# Altium footprint library KVM Footprints.PcbLib: 10 footprints
Each footprint in its own frame and in the unit in brackets; x right, y up, seen from the top. Pads: shape width x height; smd on the part's side, far side on the other; paste and mask are expansions set on the pad; w line width, h text height; cw(c..) or ccw(c..) is an arc to the next point about the centre after c.
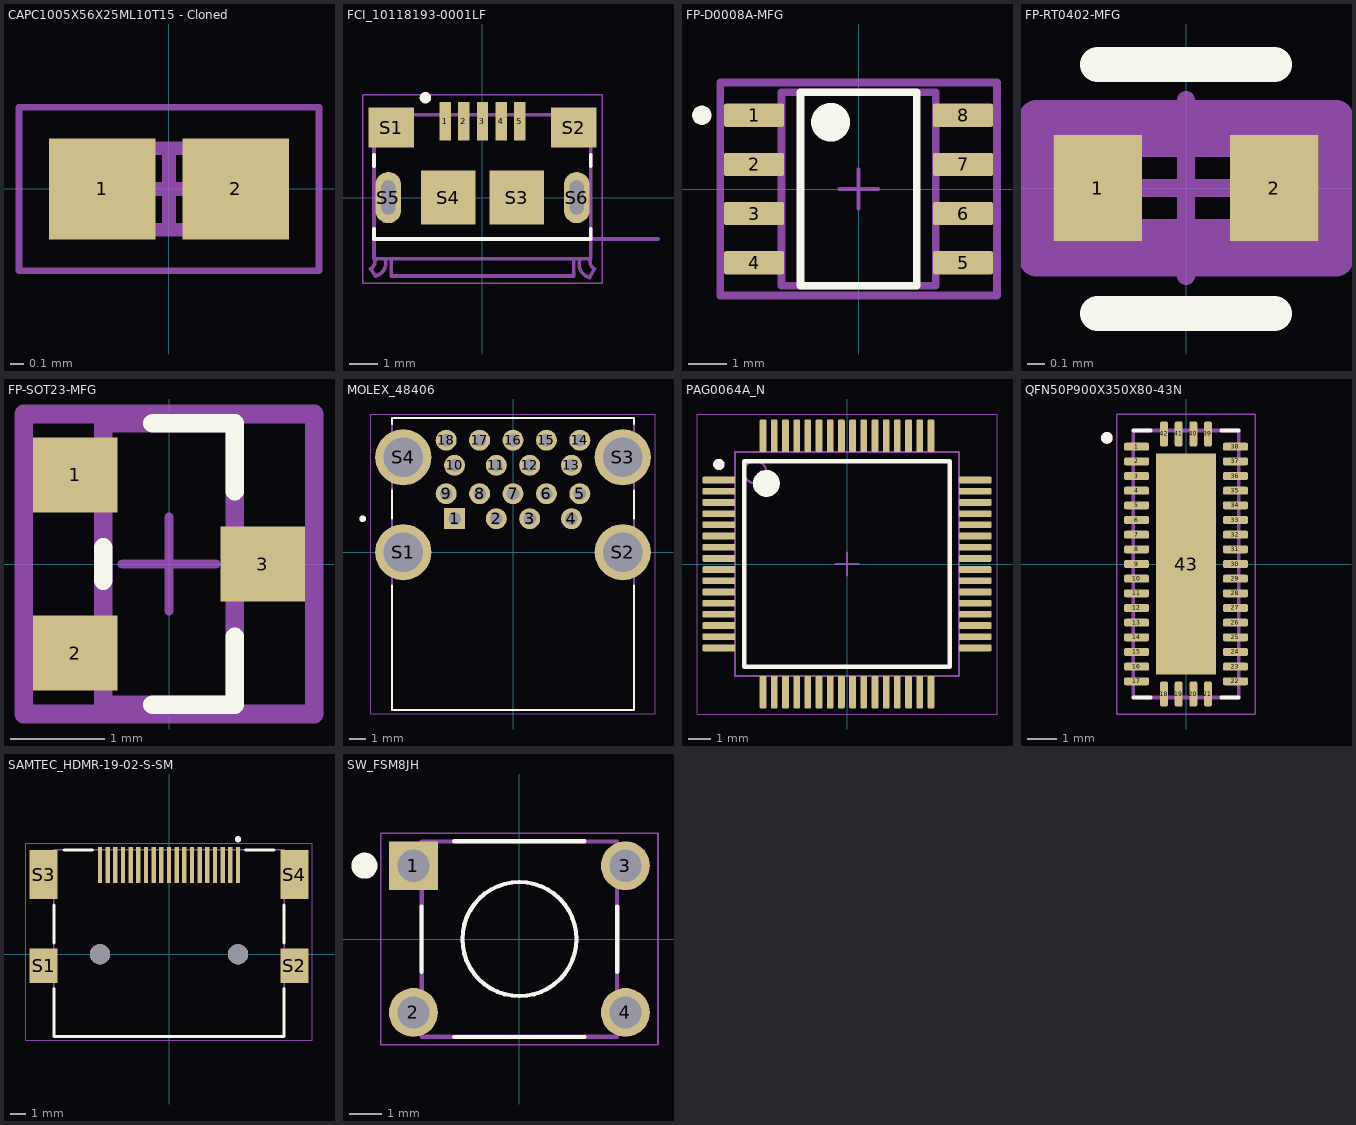
[diagram p0: the footprints below, top view; thin cyan lines are the x and y axes]

## CAPC1005X56X25ML10T15 - Cloned [mm] "Chip Capacitor, 2-Leads, Body 1.00x0.50mm, IPC Low Density"
height 0.56
pads (2):
  rect 0.78x0.74 smd: 1(-0.49,0) 2(0.49,0)
Mechanical 13:
  lines w0.1: -0.55,-0.3 -0.55,0.3 0.55,0.3 0.55,-0.3 -0.55,-0.3
Mechanical 15:
  lines w0.05: -1.1,-0.6 -1.1,0.6 1.1,0.6 1.1,-0.6 -1.1,-0.6
  lines w0.1: -0.3,0 0.3,0 ; 0,-0.3 0,0.3
3D body: height 0.56, standoff 0, extent -0.3,-0.3 0.3,0.3
3D body: height 0.56, standoff 0, extent -0.55,-0.3 -0.3,0.3
3D body: height 0.56, standoff 0, extent 0.3,-0.3 0.55,0.3

## FCI_10118193-0001LF [mm]
pads (13):
  rect 0.4x1.35 smd: 1(-1.3,2.675) 2(-0.65,2.675) 3(0,2.675) 4(0.65,2.675) 5(1.3,2.675)
  rect 1.6x1.4 smd: S1(-3.2,2.45) S2(3.2,2.45)
  rect 1.9x1.9 smd: S3(1.2,0) S4(-1.2,0)
  oval 0.9x1.8 hole 0.5 slot 1.2 at 90 deg: S5(-3.3,0) S6(3.3,0)
  round 0.5 hole 0.5 unplated: ""(-3.3,0) ""(3.3,0)
Top Overlay:
  circle w0.2: c-2,3.5 r0.1
  lines w0.127: -3.8,-1.45 3.8,-1.45 ; -3.8,-1.4 -3.8,-1.1 ; -3.8,1.1 -3.8,1.5 ; 3.8,-1.4 3.8,-1.1 ; 3.8,1.1 3.8,1.5
Mechanical 13:
  lines w0.127: -3.93,-2.5 -3.75,-2.75 ; -3.93,-2.5 ccw(c-4.065,-2.235) -3.8,-2.1 ; -3.746,-2.749 ccw(c-3.85,-2.3) -3.401,-2.196 ; -3.2,-2.2 -3.2,-2.75 3.2,-2.75 3.2,-2.2 ; 3.401,-2.198 ccw(c3.875,-2.325) 3.748,-2.799 ; 3.75,-2.8 3.93,-2.5 ; 3.8,-2.1 ccw(c4.065,-2.235) 3.93,-2.5 ; 6.15,-1.45 3.8,-1.45 ; -3.8,-2.1 -3.8,2.9 3.8,2.9 3.8,-1.45 ; -3.8,-2.1 -3.8,-2.15 3.8,-2.15 3.8,-1.45
  text "PCB END" at 4.75,-1.3 h0.41
Mechanical 15:
  lines w0.05: -4.2,-3 4.2,-3 4.2,3.6 -4.2,3.6 -4.2,-3
3D body "10118193-0001LF--3DModel-STEP-533217.STEP": height 2.85, standoff -0.76, extent -3.92,-2.794 3.937,2.867

## FP-D0008A-MFG [mm]
pads (8):
  rrect17% 1.55x0.6 smd paste+0 mask+0: 1(-2.7,1.905) 2(-2.7,0.635) 3(-2.7,-0.635) 4(-2.7,-1.905) 5(2.7,-1.905) 6(2.7,-0.635) 7(2.7,0.635) 8(2.7,1.905)
Top Overlay:
  circle w0.5: c-0.725,1.725 r0.25
  circle w0.25: c-4.05,1.905 r0.125
  lines w0.2: -1.5,-2.5 -1.5,2.5 1.5,2.5 1.5,-2.5 -1.5,-2.5
Top 3D Body:
  lines w0.2: -1.99,-2.5 -1.99,2.5 1.99,2.5 1.99,-2.5 -1.99,-2.5
Top Courtyard:
  lines w0.2: -3.575,-2.75 -3.575,2.75 3.575,2.75 3.575,-2.75 -3.575,-2.75
Top Assembly:
  lines w0.2: -3.575,-2.75 -3.575,2.75 3.575,2.75 3.575,-2.75 -3.575,-2.75
  text ".Designator" at 0,0.188 h1
Top Component Center:
  lines w0.1: -0.5,0 0.5,0 ; 0,-0.5 0,0.5
3D body "IC_Texas_Instruments_ISO7220ADR_eec.STEP": height 0.25, standoff 0, extent -3.575,-2.75 3.575,2.75

## FP-RT0402-MFG [mm]
pads (2):
  rect 0.5x0.6 smd paste+0 mask+0: 1(-0.5,0) 2(0.5,0)
Top Overlay:
  lines w0.2: -0.5,-0.711 0.5,-0.711 ; -0.5,0.7 0.5,0.7
Top 3D Body:
  lines w0.2: -0.55,-0.275 -0.55,0.275 0.55,0.275 0.55,-0.275 -0.55,-0.275
Top Courtyard:
  lines w0.2: -0.85,-0.4 -0.85,0.4 0.85,0.4 0.85,-0.4 -0.85,-0.4
Top Assembly:
  lines w0.2: -0.85,-0.4 -0.85,0.4 0.85,0.4 0.85,-0.4 -0.85,-0.4
  text ".Designator" at 0,0.188 h1
Top Component Center:
  lines w0.1: -0.5,0 0.5,0 ; 0,-0.5 0,0.5
3D body "Res_Yageo_RT0402BRE07118KL_eec.STEP": height 0.25, standoff 0, extent -0.85,-0.4 0.85,0.4

## FP-SOT23-MFG [mm]
pads (3):
  rect 0.9x0.8 smd paste+0 mask+0: 1(-1,0.95) 2(-1,-0.95) 3(1,0)
Top Overlay:
  lines w0.2: -0.7,-0.175 -0.7,0.175 ; -0.175,-1.5 0.7,-1.5 0.7,-0.775 ; -0.175,1.5 0.7,1.5 0.7,0.775
Top 3D Body:
  lines w0.2: -0.7,-1.5 0.7,-1.5 0.7,1.5 -0.7,1.5 -0.7,-1.5
Top Courtyard:
  lines w0.2: -1.55,-1.6 1.55,-1.6 1.55,1.6 -1.55,1.6 -1.55,-1.6
Top Assembly:
  lines w0.2: -1.55,-1.6 1.55,-1.6 1.55,1.6 -1.55,1.6 -1.55,-1.6
  text ".Designator" at 0,-0.001 h1
Top Component Center:
  lines w0.1: -0.5,0 0.5,0 ; 0,-0.5 0,0.5
3D body "IC_Diodes_Inc_AP2120N-3_3TRG1_eec.STEP": height 0.25, standoff 0, extent -1.55,-1.6 1.55,1.6

## MOLEX_48406 [mm]
pads (22):
  rect 1.258x1.258 hole 0.75: 1(-3.5,2)
  round 1.258 hole 0.75: 2(-1,2) 3(1,2) 4(3.5,2) 5(4,3.5) 6(2,3.5) 7(0,3.5) 8(-2,3.5) 9(-4,3.5) 10(-3.5,5.2) 11(-1,5.2) 12(1,5.2) 13(3.5,5.2) 14(4,6.7) 15(2,6.7) 16(0,6.7) 17(-2,6.7) 18(-4,6.7)
  round 3.366 hole 2.35: S1(-6.57,0) S2(6.57,0) S3(6.57,5.68) S4(-6.57,5.68)
Top Overlay:
  circle w0.2: c-9.003,2 r0.1
  lines w0.127: -7.25,-2.003 -7.25,-9.44 7.25,-9.44 7.25,-2.003 ; -7.25,2.003 -7.25,3.677 ; -7.25,7.683 -7.25,8.02 7.25,8.02 7.25,7.683 ; 7.25,2.003 7.25,3.677
Mechanical 13:
  circle w0.2: c-9.003,2 r0.1
  lines w0.127: -7.25,-9.44 -7.25,8.02 7.25,8.02 7.25,-9.44 -7.25,-9.44
Mechanical 15:
  lines w0.05: -8.503,-9.69 -8.503,8.27 8.503,8.27 8.503,-9.69 -8.503,-9.69
3D body "48406-0003.stp": height 16.2, standoff -3.2, extent -7.835,-9.398 7.835,8.062

## PAG0064A_N [mm] "QFP, 64-Leads, Body 10x10mm, Pitch 0.5mm, IPC Medium Density"
height 1.2
pads (64):
  rrect33% 1.45x0.3 smd: 1(-5.725,3.75) 2(-5.725,3.25) 3(-5.725,2.75) 4(-5.725,2.25) 5(-5.725,1.75) 6(-5.725,1.25) 7(-5.725,0.75) 8(-5.725,0.25) 9(-5.725,-0.25) 10(-5.725,-0.75) 11(-5.725,-1.25) 12(-5.725,-1.75) 13(-5.725,-2.25) 14(-5.725,-2.75) 15(-5.725,-3.25) 16(-5.725,-3.75) 33(5.725,-3.75) 34(5.725,-3.25) 35(5.725,-2.75) 36(5.725,-2.25) 37(5.725,-1.75) 38(5.725,-1.25) 39(5.725,-0.75) 40(5.725,-0.25) 41(5.725,0.25) 42(5.725,0.75) 43(5.725,1.25) 44(5.725,1.75) 45(5.725,2.25) 46(5.725,2.75) 47(5.725,3.25) 48(5.725,3.75)
  rrect33% 0.3x1.45 smd: 17(-3.75,-5.725) 18(-3.25,-5.725) 19(-2.75,-5.725) 20(-2.25,-5.725) 21(-1.75,-5.725) 22(-1.25,-5.725) 23(-0.75,-5.725) 24(-0.25,-5.725) 25(0.25,-5.725) 26(0.75,-5.725) 27(1.25,-5.725) 28(1.75,-5.725) 29(2.25,-5.725) 30(2.75,-5.725) 31(3.25,-5.725) 32(3.75,-5.725) 49(3.75,5.725) 50(3.25,5.725) 51(2.75,5.725) 52(2.25,5.725) 53(1.75,5.725) 54(1.25,5.725) 55(0.75,5.725) 56(0.25,5.725) 57(-0.25,5.725) 58(-0.75,5.725) 59(-1.25,5.725) 60(-1.75,5.725) 61(-2.25,5.725) 62(-2.75,5.725) 63(-3.25,5.725) 64(-3.75,5.725)
Top Overlay:
  circle w0.6: c-3.6,3.6 r0.3
  circle w0.25: c-5.725,4.45 r0.125
  lines w0.2: -4.6,-4.6 4.6,-4.6 4.6,4.6 -4.6,4.6 -4.6,-4.6
Mechanical 1:
  text ".Designator" at -1.524,-0.508 h1.02
Mechanical 13:
  circle w0.1: c-4.1,4.1 r0.5
  lines w0.1: -5,-5 5,-5 5,5 -5,5 -5,-5
Mechanical 15:
  lines w0.05: -6.7,-6.7 6.7,-6.7 6.7,6.7 -6.7,6.7 -6.7,-6.7
  lines w0.1: -0.5,0 0.5,0 ; 0,-0.5 0,0.5
3D body "PAG0064A.stp": height 1.09, standoff 0, extent -6,-6 6,6

## QFN50P900X350X80-43N [mm]
pads (43):
  rrect50% 0.86x0.27 smd: 1(-1.685,4) 2(-1.685,3.5) 3(-1.685,3) 4(-1.685,2.5) 5(-1.685,2) 6(-1.685,1.5) 7(-1.685,1) 8(-1.685,0.5) 9(-1.685,0) 10(-1.685,-0.5) 11(-1.685,-1) 12(-1.685,-1.5) 13(-1.685,-2) 14(-1.685,-2.5) 15(-1.685,-3) 16(-1.685,-3.5) 17(-1.685,-4) 22(1.685,-4) 23(1.685,-3.5) 24(1.685,-3) 25(1.685,-2.5) 26(1.685,-2) 27(1.685,-1.5) 28(1.685,-1) 29(1.685,-0.5) 30(1.685,0) 31(1.685,0.5) 32(1.685,1) 33(1.685,1.5) 34(1.685,2) 35(1.685,2.5) 36(1.685,3) 37(1.685,3.5) 38(1.685,4)
  rrect50% 0.27x0.86 smd: 18(-0.75,-4.435) 19(-0.25,-4.435) 20(0.25,-4.435) 21(0.75,-4.435) 39(0.75,4.435) 40(0.25,4.435) 41(-0.25,4.435) 42(-0.75,4.435)
  rect 2.05x7.55 smd paste-5: 43(0,0)
Top Overlay:
  circle w0.2: c-2.7,4.3 r0.1
  lines w0.127: -1.8,-4.55 -1.21,-4.55 ; -1.8,4.55 -1.21,4.55 ; 1.21,-4.55 1.8,-4.55 ; 1.21,4.55 1.8,4.55
Top Paste:
  region: -0.125,0.125 -0.925,0.125 -0.925,1.125 -0.125,1.125
  region: 0.925,0.125 0.125,0.125 0.125,1.125 0.925,1.125
  region: -0.125,-1.125 -0.925,-1.125 -0.925,-0.125 -0.125,-0.125
  region: 0.925,-1.125 0.125,-1.125 0.125,-0.125 0.925,-0.125
  region: -0.125,1.375 -0.925,1.375 -0.925,2.375 -0.125,2.375
  region: -0.125,2.625 -0.925,2.625 -0.925,3.625 -0.125,3.625
  region: 0.925,1.375 0.125,1.375 0.125,2.375 0.925,2.375
  region: 0.925,2.625 0.125,2.625 0.125,3.625 0.925,3.625
  region: -0.125,-2.375 -0.925,-2.375 -0.925,-1.375 -0.125,-1.375
  region: -0.125,-3.625 -0.925,-3.625 -0.925,-2.625 -0.125,-2.625
  region: 0.925,-2.375 0.125,-2.375 0.125,-1.375 0.925,-1.375
  region: 0.925,-3.625 0.125,-3.625 0.125,-2.625 0.925,-2.625
Mechanical 13:
  circle w0.2: c-2.7,4.3 r0.1
  lines w0.127: -1.8,-4.55 -1.8,4.55 1.8,4.55 1.8,-4.55 -1.8,-4.55
Mechanical 15:
  lines w0.05: -2.365,-5.115 -2.365,5.115 2.365,5.115 2.365,-5.115 -2.365,-5.115
3D body "step_temp.STEP": height 0.8, standoff 0, extent -1.75,-4.5 1.75,4.5

## SAMTEC_HDMR-19-02-S-SM [mm]
pads (25):
  rect 0.28x2.35 smd: 1(4.5,5.825) 2(4,5.825) 3(3.5,5.825) 4(3,5.825) 5(2.5,5.825) 6(2,5.825) 7(1.5,5.825) 8(1,5.825) 9(0.5,5.825) 10(0,5.825) 11(-0.5,5.825) 12(-1,5.825) 13(-1.5,5.825) 14(-2,5.825) 15(-2.5,5.825) 16(-3,5.825) 17(-3.5,5.825) 18(-4,5.825) 19(-4.5,5.825)
  rect 1.85x2.24 smd: S1(-8.18,-0.76) S2(8.18,-0.76)
  rect 1.85x3.2 smd: S3(-8.18,5.2) S4(8.18,5.2)
  round 1.32 hole 1.32 unplated: ""(-4.5,0) ""(4.5,0)
Top Overlay:
  circle w0.2: c4.5,7.5 r0.1
  lines w0.2: -7.505,-2.25 -7.505,-5.36 7.505,-5.36 7.505,-2.25 ; -7.505,0.75 -7.505,3.2 ; -6.85,6.81 -5,6.81 ; 5,6.81 6.85,6.81 ; 7.505,0.75 7.505,3.2
Mechanical 13:
  circle w0.2: c4.5,7.5 r0.1
  lines w0.1: -7.505,-5.36 7.505,-5.36 7.505,6.81 -7.505,6.81 -7.505,-5.36
Mechanical 15:
  lines w0.05: -9.355,-5.61 9.355,-5.61 9.355,7.25 -9.355,7.25 -9.355,-5.61
3D body "HDMR-19-02-S-SM.stp": height 6.2, standoff -1.58, extent -8.6,-5.372 8.6,7.078

## SW_FSM8JH [mm]
pads (4):
  rect 1.498x1.498 hole 0.99: 1(-3.25,2.25)
  round 1.498 hole 0.99: 2(-3.25,-2.25) 3(3.25,2.25) 4(3.25,-2.25)
Top Overlay:
  circle w0.127: c0,0 r1.75
  circle w0.4: c-4.75,2.25 r0.2
  lines w0.127: -3,-1 -3,1 ; -2,-3 2,-3 ; -2,3 2,3 ; 3,-1 3,1
Mechanical 13:
  circle w0.127: c0,0 r1.75
  circle w0.4: c-3.25,2.25 r0.2
  lines w0.127: -2.995,-2.995 -2.995,2.995 2.995,2.995 2.995,-2.995 -2.995,-2.995
Mechanical 15:
  lines w0.05: -4.25,-3.245 4.25,-3.245 4.25,3.25 -4.25,3.25 -4.25,-3.245
3D body "FSM8JH--3DModel-STEP-56544.STEP": height 9.5, standoff -3.51, extent -3.937,-2.997 3.962,2.997